# Altium footprint library O_JonF_DaveL.PcbLib: 331 footprints (part 21 of 21)
Each footprint in its own frame and in the unit in brackets; x right, y up, seen from the top. Pads: shape width x height; smd on the part's side, far side on the other; paste and mask are expansions set on the pad; w line width, h text height; cw(c..) or ccw(c..) is an arc to the next point about the centre after c.
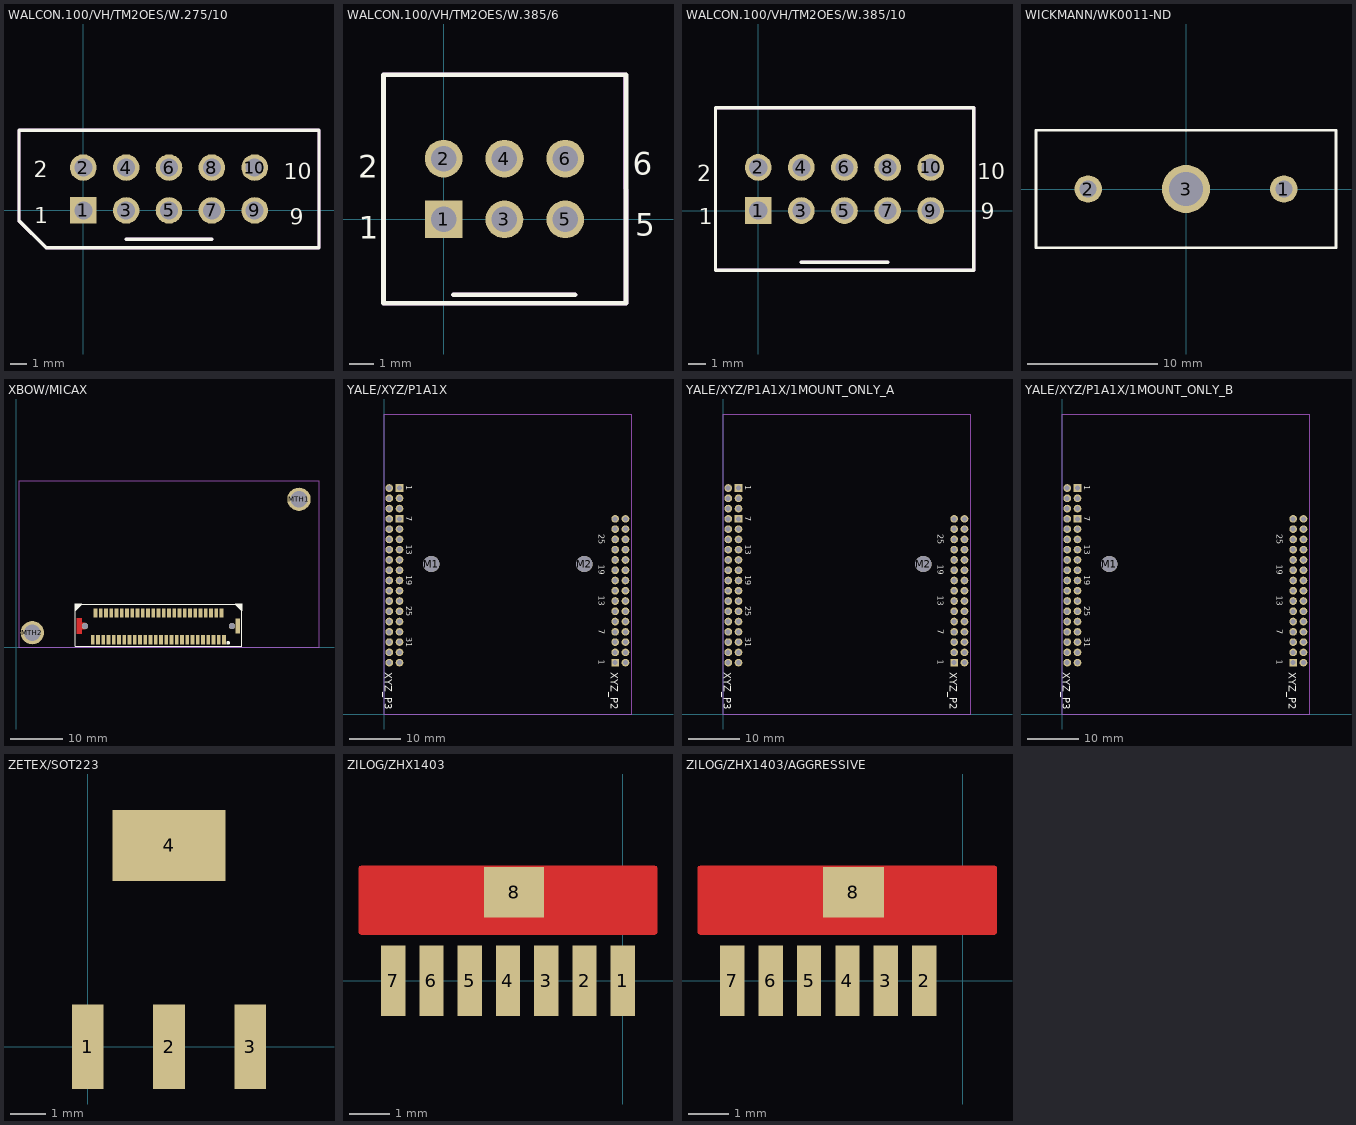
[diagram p20: the footprints below, top view; thin cyan lines are the x and y axes]

## WALCON.100/VH/TM2OES/W.275/10 [mil]
pads (10):
  rect 62x62 hole 42: 1(0,0)
  round 62 hole 42: 2(0,100) 3(100,0) 4(100,100) 5(200,0) 6(200,100) 7(300,0) 8(300,100) 9(400,0) 10(400,100)
Top Overlay:
  lines w8: 100,-67 300,-67 ; -150,-24 -150,187.5 550,187.5 550,-87.5 -86.5,-87.5 -150,-24
  text ".Designator" at -143.95,188.88 h37.5
  text "1" at -114.88,-29.63 h37.5
  text "2" at -115.88,76.87 h37.5
  text "9" at 482.12,-33.63 h37.5
  text "10" at 467.22,72.37 h37.5
Mechanical 1:
  lines w8: 100,-67 300,-67 ; -150,-24 -150,187.5 550,187.5 550,-87.5 -86.5,-87.5 -150,-24
  text ".Designator" at -143.95,188.88 h37.5
  text ".Comment" at -142.33,61.87 h37.5
  text ".Pattern" at -140.15,118.62 h22.5
  text "1" at -114.88,-29.63 h37.5
  text "2" at -115.38,76.87 h37.5
  text "9" at 482.12,-33.63 h37.5
  text "10" at 467.22,72.37 h37.5

## WALCON.100/VH/TM2OES/W.385/6 [mil]
pads (6):
  rect 62x62 hole 42: 1(0,0)
  round 62 hole 42: 2(0,100) 3(100,0) 4(100,100) 5(200,0) 6(200,100)
Top Overlay:
  lines w8: 16,-124 216,-124 ; -99,-138 -99,238 300,238 300,-138 -99,-138
  text ".Designator" at -118.95,252.88 h37.5
  text "1" at -139.88,-31.63 h37.5
  text "2" at -140.88,68.37 h37.5
  text "5" at 315.12,-26.63 h37.5
  text "6" at 311.22,73.37 h37.5
Mechanical 1:
  lines w8: 16,-124 216,-124 ; -99,-138 -99,238 299,238 300,-138 -99,-138
  text ".Designator" at -119.95,251.88 h37.5
  text ".Comment" at -205.33,124.87 h37.5
  text ".Pattern" at -213.15,194.62 h22.5
  text "1" at -139.88,-31.63 h37.5
  text "2" at -140.88,68.37 h37.5
  text "5" at 315.12,-26.63 h37.5
  text "6" at 311.22,73.37 h37.5

## WALCON.100/VH/TM2OES/W.385/10 [mil]
pads (10):
  rect 62x62 hole 42: 1(0,0)
  round 62 hole 42: 2(0,100) 3(100,0) 4(100,100) 5(200,0) 6(200,100) 7(300,0) 8(300,100) 9(400,0) 10(400,100)
Top Overlay:
  lines w8: 100,-120 300,-120 ; -99,-138 500,-138 500,238 -99,238 -99,-138
  text "10" at 508.22,72.37 h37.5
  text "9" at 516.12,-20.63 h37.5
  text "2" at -141.88,68.37 h37.5
  text "1" at -137.88,-31.63 h37.5
  text ".Designator" at -206.95,251.88 h37.5
Mechanical 1:
  lines w8: 100,-120 300,-120 ; -99,-138 500,-138 500,238 -99,238 -99,-138
  text "10" at 509.22,72.37 h37.5
  text "9" at 515.12,-20.63 h37.5
  text "2" at -142.88,68.37 h37.5
  text "1" at -137.88,-32.63 h37.5
  text ".Pattern" at -203.15,181.62 h22.5
  text ".Comment" at -205.33,124.87 h37.5
  text ".Designator" at -206.95,251.88 h37.5

## WICKMANN/WK0011-ND [mm]
pads (3):
  round 2.1 hole 1.3: 1(7.5,0) 2(-7.5,0)
  round 3.683 hole 2.6: 3(0,0)
Top Overlay:
  lines w0.2: -11.5,-4.5 11.5,-4.5 11.5,4.5 -11.5,4.5 -11.5,-4.5

## XBOW/MICAX [mil]
pads (56):
  rect 28x70 smd: 1(1557.2,57.09) 2(1517.83,57.09) 3(1478.46,57.09) 4(1439.09,57.09) 5(1399.72,57.09) 6(1360.35,57.09) 7(1320.98,57.09) 8(1281.61,57.09) 9(1242.24,57.09) 10(1202.87,57.09) 11(1163.5,57.09) 12(1124.13,57.09) 13(1084.76,57.09) 14(1045.39,57.09) 15(1006.02,57.09) 16(966.65,57.09) 17(927.28,57.09) 18(887.91,57.09) 19(848.54,57.09) 20(809.17,57.09) 21(769.8,57.09) 22(730.43,57.09) 23(691.06,57.09) 24(651.68,57.09) 25(612.32,57.09) 26(572.94,57.09) 27(1537.51,257.87) 28(1498.14,257.87) 29(1458.77,257.87) 30(1419.4,257.87) 31(1380.03,257.87) 32(1340.66,257.87) 33(1301.29,257.87) 34(1261.92,257.87) 35(1222.55,257.87) 36(1183.18,257.87) 37(1143.81,257.87) 38(1104.44,257.87) 39(1065.07,257.87) 40(1025.7,257.87) 41(986.33,257.87) 42(946.96,257.87) 43(907.59,257.87) 44(868.22,257.87) 45(828.85,257.87) 46(789.48,257.87) 47(750.11,257.87) 48(710.74,257.87) 49(671.37,257.87) 50(632,257.87) 51(592.63,257.87)
  round 47.24 hole 47.24: 52(513.89,159.45) 55(1616.25,159.45)
  rect 36x115 smd: 53(1659.56,159.45)
  round 175 hole 125: MTH1(2119,1110) MTH2(119,110)
Top Layer:
  region: 489.02,217.02 489.02,217 489.02,183.02 515,183.02 515.02,183.02 515.02,183 515.02,136 515.02,135.98 515,135.98 489.02,135.98 489.02,102 489.02,101.98 489,101.98 452,101.98 451.98,101.98 451.98,102 451.98,217 451.98,217.02 452,217.02 489,217.02
Top Overlay:
  region: 1597.06,43.06 1598.33,40 1598.33,26 1597.06,22.94 1594,21.67 1581,21.67 1577.94,22.94 1576.67,26 1576.67,40 1577.94,43.06 1581,44.33 1594,44.33
  region: 489.06,327.06 490.33,324 489.06,320.94 444.06,275.94 441,274.67 437.94,275.94 436.67,279 436.67,324 437.94,327.06 441,328.33 486,328.33
  region: 1692.06,327.06 1693.33,324 1693.33,279 1692.06,275.94 1689,274.67 1685.94,275.94 1640.94,320.94 1639.67,324 1640.94,327.06 1644,328.33 1689,328.33
  lines w8: 441,10 1689,10 1689,324 441,324 441,10
Top Paste:
  region: 484.02,213.02 484.02,213 484.02,106 484.02,105.98 484,105.98 455,105.98 454.98,105.98 454.98,106 454.98,213 454.98,213.02 455,213.02 484,213.02
Top Solder:
  region: 489.02,217.02 489.02,217 489.02,183.02 515,183.02 515.02,183.02 515.02,183 515.02,136 515.02,135.98 515,135.98 489.02,135.98 489.02,102 489.02,101.98 489,101.98 452,101.98 451.98,101.98 451.98,102 451.98,217 451.98,217.02 452,217.02 489,217.02
Mechanical 1:
  lines w1: 19,0 19,1250 2269,1250 2269,0 19,0
  text "Updated by Jonathan Friedman 2006.10.13: Remeasured physical part and adjusted outline, redrew silk,  ‡})" at 33,1131 h15
  text "TOP surface FACES the TOP surface (side with processor) of the MicaX MPR" at 33,1155 h15
  text ".Designator" at 33.83,1199.61 h15
  text ".Pattern" at 32.8,1176.61 h15

## YALE/XYZ/P1A1X [mm]
pads (68):
  round 3.18 hole 3.18: M1(9.2,29.2) M2(39,29.2)
  rect 1.5x1.5 / inner round 1.5 / far side rect 1.5x1.5 hole 0.965: P2_1(45,10) P3_1(3,44) P3_7(3,38)
  round 1.5 hole 0.965: P2_2(47,10) P2_3(45,12) P2_4(47,12) P2_5(45,14) P2_6(47,14) P2_7(45,16) P2_8(47,16) P2_9(45,18) P2_10(47,18) P2_11(45,20) P2_12(47,20) P2_13(45,22) P2_14(47,22) P2_15(45,24) P2_16(47,24) P2_17(45,26) P2_18(47,26) P2_19(45,28) P2_20(47,28) P2_21(45,30) P2_22(47,30) P2_23(45,32) P2_24(47,32) P2_25(45,34) P2_26(47,34) P2_27(45,36) P2_28(47,36) P2_29(45,38) P2_30(47,38) P3_2(1,44) P3_3(3,42) P3_4(1,42) P3_5(3,40) P3_6(1,40) P3_8(1,38) P3_9(3,36) P3_10(1,36) P3_11(3,34) P3_12(1,34) P3_13(3,32) P3_14(1,32) P3_15(3,30) P3_16(1,30) P3_17(3,28) P3_18(1,28) P3_19(3,26) P3_20(1,26) P3_21(3,24) P3_22(1,24) P3_23(3,22) P3_24(1,22) P3_25(3,20) P3_26(1,20) P3_27(3,18) P3_28(1,18) P3_29(3,16) P3_30(1,16) P3_31(3,14) P3_32(1,14) P3_33(3,12) P3_34(1,12) P3_35(3,10) P3_36(1,10)
Top Overlay:
  text "XYZ_P3" at 0.106,8.149 h1.43
  text "XYZ_P2" at 44.106,8.149 h1.43
  text "1" at 4.288,44.52 h1.12
  text "7" at 4.327,38.482 h1.12
  text "13" at 4.327,32.982 h1.12
  text "19" at 4.327,26.982 h1.12
  text "25" at 4.327,20.982 h1.12
  text "31" at 4.327,14.982 h1.12
  text "25" at 41.788,35.02 h1.12
  text "19" at 41.788,29.02 h1.12
  text "13" at 41.788,23.02 h1.12
  text "7" at 41.788,16.52 h1.12
  text "1" at 41.788,10.52 h1.12
Mechanical 1:
  lines w0.001: 0,0 48.26,0 48.26,58.42 0,58.42 0,0
  text "XYZ_JTAG INTERFACE ON THIS SIDE" at 1,-3 h1.43

## YALE/XYZ/P1A1X/1MOUNT_ONLY_A [mm]
pads (67):
  round 3.18 hole 3.18: M2(39,29.2)
  rect 1.5x1.5 / inner round 1.5 / far side rect 1.5x1.5 hole 0.965: P2_1(45,10) P3_1(3,44) P3_7(3,38)
  round 1.5 hole 0.965: P2_2(47,10) P2_3(45,12) P2_4(47,12) P2_5(45,14) P2_6(47,14) P2_7(45,16) P2_8(47,16) P2_9(45,18) P2_10(47,18) P2_11(45,20) P2_12(47,20) P2_13(45,22) P2_14(47,22) P2_15(45,24) P2_16(47,24) P2_17(45,26) P2_18(47,26) P2_19(45,28) P2_20(47,28) P2_21(45,30) P2_22(47,30) P2_23(45,32) P2_24(47,32) P2_25(45,34) P2_26(47,34) P2_27(45,36) P2_28(47,36) P2_29(45,38) P2_30(47,38) P3_2(1,44) P3_3(3,42) P3_4(1,42) P3_5(3,40) P3_6(1,40) P3_8(1,38) P3_9(3,36) P3_10(1,36) P3_11(3,34) P3_12(1,34) P3_13(3,32) P3_14(1,32) P3_15(3,30) P3_16(1,30) P3_17(3,28) P3_18(1,28) P3_19(3,26) P3_20(1,26) P3_21(3,24) P3_22(1,24) P3_23(3,22) P3_24(1,22) P3_25(3,20) P3_26(1,20) P3_27(3,18) P3_28(1,18) P3_29(3,16) P3_30(1,16) P3_31(3,14) P3_32(1,14) P3_33(3,12) P3_34(1,12) P3_35(3,10) P3_36(1,10)
Top Overlay:
  text "XYZ_P3" at 0.106,8.149 h1.43
  text "XYZ_P2" at 44.106,8.149 h1.43
  text "1" at 4.288,44.52 h1.12
  text "7" at 4.327,38.482 h1.12
  text "13" at 4.327,32.982 h1.12
  text "19" at 4.327,26.982 h1.12
  text "25" at 4.327,20.982 h1.12
  text "31" at 4.327,14.982 h1.12
  text "25" at 41.788,35.02 h1.12
  text "19" at 41.788,29.02 h1.12
  text "13" at 41.788,23.02 h1.12
  text "7" at 41.788,16.52 h1.12
  text "1" at 41.788,10.52 h1.12
Mechanical 1:
  lines w0.001: 0,0 48.26,0 48.26,58.42 0,58.42 0,0
  text "XYZ_JTAG INTERFACE ON THIS SIDE" at 1,-3 h1.43

## YALE/XYZ/P1A1X/1MOUNT_ONLY_B [mm]
pads (67):
  round 3.18 hole 3.18: M1(9.2,29.2)
  rect 1.5x1.5 / inner round 1.5 / far side rect 1.5x1.5 hole 0.965: P2_1(45,10) P3_1(3,44) P3_7(3,38)
  round 1.5 hole 0.965: P2_2(47,10) P2_3(45,12) P2_4(47,12) P2_5(45,14) P2_6(47,14) P2_7(45,16) P2_8(47,16) P2_9(45,18) P2_10(47,18) P2_11(45,20) P2_12(47,20) P2_13(45,22) P2_14(47,22) P2_15(45,24) P2_16(47,24) P2_17(45,26) P2_18(47,26) P2_19(45,28) P2_20(47,28) P2_21(45,30) P2_22(47,30) P2_23(45,32) P2_24(47,32) P2_25(45,34) P2_26(47,34) P2_27(45,36) P2_28(47,36) P2_29(45,38) P2_30(47,38) P3_2(1,44) P3_3(3,42) P3_4(1,42) P3_5(3,40) P3_6(1,40) P3_8(1,38) P3_9(3,36) P3_10(1,36) P3_11(3,34) P3_12(1,34) P3_13(3,32) P3_14(1,32) P3_15(3,30) P3_16(1,30) P3_17(3,28) P3_18(1,28) P3_19(3,26) P3_20(1,26) P3_21(3,24) P3_22(1,24) P3_23(3,22) P3_24(1,22) P3_25(3,20) P3_26(1,20) P3_27(3,18) P3_28(1,18) P3_29(3,16) P3_30(1,16) P3_31(3,14) P3_32(1,14) P3_33(3,12) P3_34(1,12) P3_35(3,10) P3_36(1,10)
Top Overlay:
  text "XYZ_P3" at 0.106,8.149 h1.43
  text "XYZ_P2" at 44.106,8.149 h1.43
  text "1" at 4.288,44.52 h1.12
  text "7" at 4.327,38.482 h1.12
  text "13" at 4.327,32.982 h1.12
  text "19" at 4.327,26.982 h1.12
  text "25" at 4.327,20.982 h1.12
  text "31" at 4.327,14.982 h1.12
  text "25" at 41.788,35.02 h1.12
  text "19" at 41.788,29.02 h1.12
  text "13" at 41.788,23.02 h1.12
  text "7" at 41.788,16.52 h1.12
  text "1" at 41.788,10.52 h1.12
Mechanical 1:
  lines w0.001: 0,0 48.26,0 48.26,58.42 0,58.42 0,0
  text "XYZ_JTAG INTERFACE ON THIS SIDE" at 1,-3 h1.43

## ZETEX/SOT223 [mm]
pads (4):
  rect 0.9x2.4 smd: 1(0,0) 2(2.3,0) 3(4.6,0)
  rect 3.2x2 smd: 4(2.3,5.7)
Top Overlay:
  text ".Designator" at -1,7 h1.5
Mechanical 1:
  text ".Pattern" at 0,0 h1.5
  text ".Comment" at 0,6 h1.5
  text ".Designator" at 0,9 h1.5

## ZILOG/ZHX1403 [mm]
pads (8):
  rect 0.6x1.75 smd: 1(0,0) 2(-0.95,0) 3(-1.9,0) 4(-2.85,0) 5(-3.8,0) 6(-4.75,0) 7(-5.7,0)
  rect 1.5x1.25 smd: 8(-2.7,2.2)
Top Layer:
  region: 0.838,2.838 0.854,2.8 0.854,1.2 0.838,1.162 0.8,1.146 -6.5,1.146 -6.538,1.162 -6.554,1.2 -6.554,2.8 -6.538,2.838 -6.5,2.854 0.8,2.854
Top Overlay:
  text ".Designator" at -6.6,3.1 h1.5
Mechanical 1:
  text ".Pattern" at 0,0 h1.5
  text ".Comment" at 0,6 h1.5
  text ".Designator" at 0,9 h1.5

## ZILOG/ZHX1403/AGGRESSIVE [mm]
pads (7):
  rect 0.6x1.75 smd: 2(-0.95,0) 3(-1.9,0) 4(-2.85,0) 5(-3.8,0) 6(-4.75,0) 7(-5.7,0)
  rect 1.5x1.25 smd: 8(-2.7,2.2)
Top Layer:
  region: 0.838,2.838 0.854,2.8 0.854,1.2 0.838,1.162 0.8,1.146 -6.5,1.146 -6.538,1.162 -6.554,1.2 -6.554,2.8 -6.538,2.838 -6.5,2.854 0.8,2.854
Top Overlay:
  text ".Designator" at -6.6,3.1 h1.5
Mechanical 1:
  text ".Pattern" at 0,0 h1.5
  text ".Comment" at 0,6 h1.5
  text ".Designator" at 0,9 h1.5